# Altium integrated library LP3961ES-2P5.IntLib: 2 symbols
Pins are listed as number, name and electrical type; pins without a type are passive.

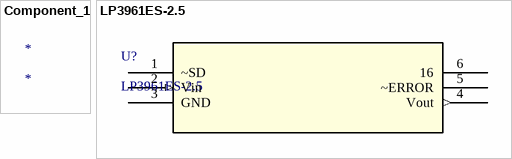
[diagram p0: symbols Component_1 to LP3961ES-2.5]

## Component_1
designator *

## LP3961ES-2.5
designator U?
No Description Available; Mfr_Name: Texas Instruments; Copyright: Copyright (C) 2022 Ultra Librarian. All rights reserved.; Manufacturer_Part_Number: LP3961ES-2.5; RefDes: RefDes; Type: DEV
footprint TS5B_TEX
pins: 1 ~SD, 2 Vin (in), 3 GND, 4 Vout (out), 5 ~ERROR, 6 16